# Altium schematic symbol library WE-SFIA.SchLib: 10 symbols
Pins are listed as number, name and electrical type; pins without a type are passive.

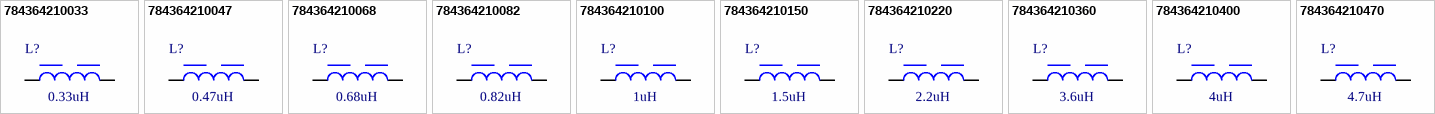
[diagram p0: symbols 784364210033 to 784364210470]

## 784364210033
designator L?, comment 0.33uH
WE-SFIA SMT Flat Wire Inductor, size 2010, 0.33uH, 49A, 1.1mOhm; Manufacturer Part Number: 784364210033; Manufacturer: Wurth Elektronik; Case/Size Code: 2010; DC Resistance: 1mOhm; Saturation Current @ 30%: 158A; Category: Power Inductors; Match Code: WE-SFIA; ComponentLink1Description: Website Link; ComponentLink1URL: https://www.we-online.com/redexpert/article/784364210033?ad; ComponentLink2Description: Datasheet Link; ComponentLink2URL: https://www.we-online.com/redexpert/spec/784364210033?ad; Mount: Surface Mount; Min Operating Temperature: -40°C; Max Operating Temperature: 180°C; Packaging: Tape and Reel; Length: 18.5mm; Width: 20.5mm; Height: 10.1mm; Automotive: Yes; DC Resistance Max: 1.1mOhm; Inductance: 0.33uH; Performance Rated Current: 49A
footprint WE-SFIA_2010
pins: 1, 2

## 784364210047
designator L?, comment 0.47uH
WE-SFIA SMT Flat Wire Inductor, size 2010, 0.47uH, 49A, 1.1mOhm; Manufacturer Part Number: 784364210047; Manufacturer: Wurth Elektronik; Case/Size Code: 2010; DC Resistance: 1mOhm; Saturation Current @ 30%: 124A; Category: Power Inductors; Match Code: WE-SFIA; ComponentLink1Description: Website Link; ComponentLink1URL: https://www.we-online.com/redexpert/article/784364210047?ad; ComponentLink2Description: Datasheet Link; ComponentLink2URL: https://www.we-online.com/redexpert/spec/784364210047?ad; Mount: Surface Mount; Min Operating Temperature: -40°C; Max Operating Temperature: 180°C; Packaging: Tape and Reel; Length: 18.5mm; Width: 20.5mm; Height: 10.1mm; Automotive: Yes; DC Resistance Max: 1.1mOhm; Inductance: 0.47uH; Performance Rated Current: 49A
footprint WE-SFIA_2010
pins: 1, 2

## 784364210068
designator L?, comment 0.68uH
WE-SFIA SMT Flat Wire Inductor, size 2010, 0.68uH, 49A, 1.1mOhm; Manufacturer Part Number: 784364210068; Manufacturer: Wurth Elektronik; Case/Size Code: 2010; DC Resistance: 1mOhm; Saturation Current @ 30%: 83A; Category: Power Inductors; Match Code: WE-SFIA; ComponentLink1Description: Website Link; ComponentLink1URL: https://www.we-online.com/redexpert/article/784364210068?ad; ComponentLink2Description: Datasheet Link; ComponentLink2URL: https://www.we-online.com/redexpert/spec/784364210068?ad; Mount: Surface Mount; Min Operating Temperature: -40°C; Max Operating Temperature: 180°C; Packaging: Tape and Reel; Length: 18.5mm; Width: 20.5mm; Height: 10.1mm; Automotive: Yes; DC Resistance Max: 1.1mOhm; Inductance: 0.68uH; Performance Rated Current: 49A
footprint WE-SFIA_2010
pins: 1, 2

## 784364210082
designator L?, comment 0.82uH
WE-SFIA SMT Flat Wire Inductor, size 2013, 0.82uH, 34.5A, 2.09mOhm; Manufacturer Part Number: 784364210082; Manufacturer: Wurth Elektronik; Case/Size Code: 2013; DC Resistance: 1.9mOhm; Saturation Current @ 30%: 130A; Category: Power Inductors; Match Code: WE-SFIA; ComponentLink1Description: Website Link; ComponentLink1URL: https://www.we-online.com/redexpert/article/784364210082?ad; ComponentLink2Description: Datasheet Link; ComponentLink2URL: https://www.we-online.com/redexpert/spec/784364210082?ad; Mount: Surface Mount; Min Operating Temperature: -40°C; Max Operating Temperature: 180°C; Packaging: Tape and Reel; Length: 18.5mm; Width: 20.5mm; Height: 13.3mm; Automotive: Yes; DC Resistance Max: 2.09mOhm; Inductance: 0.82uH; Performance Rated Current: 34.5A
footprint WE-SFIA_2013
pins: 1, 2

## 784364210100
designator L?, comment 1uH
WE-SFIA SMT Flat Wire Inductor, size 2013, 1uH, 34.5A, 2.09mOhm; Manufacturer Part Number: 784364210100; Manufacturer: Wurth Elektronik; Case/Size Code: 2013; DC Resistance: 1.9mOhm; Saturation Current @ 30%: 101A; Category: Power Inductors; Match Code: WE-SFIA; ComponentLink1Description: Website Link; ComponentLink1URL: https://www.we-online.com/redexpert/article/784364210100?ad; ComponentLink2Description: Datasheet Link; ComponentLink2URL: https://www.we-online.com/redexpert/spec/784364210100?ad; Mount: Surface Mount; Min Operating Temperature: -40°C; Max Operating Temperature: 180°C; Packaging: Tape and Reel; Length: 18.5mm; Width: 20.5mm; Height: 13.3mm; Automotive: Yes; DC Resistance Max: 2.09mOhm; Inductance: 1uH; Performance Rated Current: 34.5A
footprint WE-SFIA_2013
pins: 1, 2

## 784364210150
designator L?, comment 1.5uH
WE-SFIA SMT Flat Wire Inductor, size 2013, 1.5uH, 34.5A, 2.09mOhm; Manufacturer Part Number: 784364210150; Manufacturer: Wurth Elektronik; Case/Size Code: 2013; DC Resistance: 1.9mOhm; Saturation Current @ 30%: 71A; Category: Power Inductors; Match Code: WE-SFIA; ComponentLink1Description: Website Link; ComponentLink1URL: https://www.we-online.com/redexpert/article/784364210150?ad; ComponentLink2Description: Datasheet Link; ComponentLink2URL: https://www.we-online.com/redexpert/spec/784364210150?ad; Mount: Surface Mount; Min Operating Temperature: -40°C; Max Operating Temperature: 180°C; Packaging: Tape and Reel; Length: 18.5mm; Width: 20.5mm; Height: 13.3mm; Automotive: Yes; DC Resistance Max: 2.09mOhm; Inductance: 1.5uH; Performance Rated Current: 34.5A
footprint WE-SFIA_2013
pins: 1, 2

## 784364210220
designator L?, comment 2.2uH
WE-SFIA SMT Flat Wire Inductor, size 2013, 2.2uH, 34.5A, 2.09mOhm; Manufacturer Part Number: 784364210220; Manufacturer: Wurth Elektronik; Case/Size Code: 2013; DC Resistance: 1.9mOhm; Saturation Current @ 30%: 51A; Category: Power Inductors; Match Code: WE-SFIA; ComponentLink1Description: Website Link; ComponentLink1URL: https://www.we-online.com/redexpert/article/784364210220?ad; ComponentLink2Description: Datasheet Link; ComponentLink2URL: https://www.we-online.com/redexpert/spec/784364210220?ad; Mount: Surface Mount; Min Operating Temperature: -40°C; Max Operating Temperature: 180°C; Packaging: Tape and Reel; Length: 18.5mm; Width: 20.5mm; Height: 13.3mm; Automotive: Yes; DC Resistance Max: 2.09mOhm; Inductance: 2.2uH; Performance Rated Current: 34.5A
footprint WE-SFIA_2013
pins: 1, 2

## 784364210360
designator L?, comment 3.6uH
WE-SFIA SMT Flat Wire Inductor, size 2016, 3.6uH, 22.5A, 3.08mOhm; Manufacturer Part Number: 784364210360; Manufacturer: Wurth Elektronik; Case/Size Code: 2016; DC Resistance: 2.8mOhm; Saturation Current @ 30%: 44A; Category: Power Inductors; Match Code: WE-SFIA; ComponentLink1Description: Website Link; ComponentLink1URL: https://www.we-online.com/redexpert/article/784364210360?ad; ComponentLink2Description: Datasheet Link; ComponentLink2URL: https://www.we-online.com/redexpert/spec/784364210360?ad; Mount: Surface Mount; Min Operating Temperature: -40°C; Max Operating Temperature: 180°C; Packaging: Tape and Reel; Length: 18.5mm; Width: 20.5mm; Height: 16.5mm; Automotive: Yes; DC Resistance Max: 3.08mOhm; Inductance: 3.6uH; Performance Rated Current: 22.5A
footprint WE-SFIA_2016
pins: 1, 2

## 784364210400
designator L?, comment 4uH
WE-SFIA SMT Flat Wire Inductor, size 2016, 4uH, 22.5A, 3.08mOhm; Manufacturer Part Number: 784364210400; Manufacturer: Wurth Elektronik; Case/Size Code: 2016; DC Resistance: 2.8mOhm; Saturation Current @ 30%: 40A; Category: Power Inductors; Match Code: WE-SFIA; ComponentLink1Description: Website Link; ComponentLink1URL: https://www.we-online.com/redexpert/article/784364210400?ad; ComponentLink2Description: Datasheet Link; ComponentLink2URL: https://www.we-online.com/redexpert/spec/784364210400?ad; Mount: Surface Mount; Min Operating Temperature: -40°C; Max Operating Temperature: 180°C; Packaging: Tape and Reel; Length: 18.5mm; Width: 20.5mm; Height: 16.5mm; Automotive: Yes; DC Resistance Max: 3.08mOhm; Inductance: 4uH; Performance Rated Current: 22.5A
footprint WE-SFIA_2016
pins: 1, 2

## 784364210470
designator L?, comment 4.7uH
WE-SFIA SMT Flat Wire Inductor, size 2016, 4.7uH, 22.5A, 3.08mOhm; Manufacturer Part Number: 784364210470; Manufacturer: Wurth Elektronik; Case/Size Code: 2016; DC Resistance: 2.8mOhm; Saturation Current @ 30%: 35A; Category: Power Inductors; Match Code: WE-SFIA; ComponentLink1Description: Website Link; ComponentLink1URL: https://www.we-online.com/redexpert/article/784364210470?ad; ComponentLink2Description: Datasheet Link; ComponentLink2URL: https://www.we-online.com/redexpert/spec/784364210470?ad; Mount: Surface Mount; Min Operating Temperature: -40°C; Max Operating Temperature: 180°C; Packaging: Tape and Reel; Length: 18.5mm; Width: 20.5mm; Height: 16.5mm; Automotive: Yes; DC Resistance Max: 3.08mOhm; Inductance: 4.7uH; Performance Rated Current: 22.5A
footprint WE-SFIA_2016
pins: 1, 2